# EAGLE library part DECADE-WS2811-SOP8 (library DECADE-libraries)
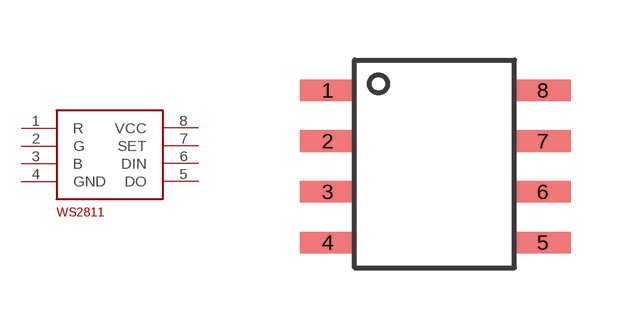
[diagram p21: symbol with the pads of DECADE-SOP8; footprint DECADE-SOP8]

Designator prefix -

## DECADE-WS2811-SOP8  [DECADE-SOP8]
1  R
2  G
3  B
4  GND
5  DO
6  DIN
7  SET
8  VCC

## Footprint DECADE-SOP8 (pad centres in mm)
smd 1.4 x 0.54: 1 -2.57,4.44; 2 -2.57,3.17; 3 -2.57,1.9; 4 -2.57,0.63; 5 2.81,0.63; 6 2.81,1.9; 7 2.81,3.17; 8 2.81,4.44